# EAGLE library part MA20-1 (library dec-con)
Pin Header (.125" spacing)
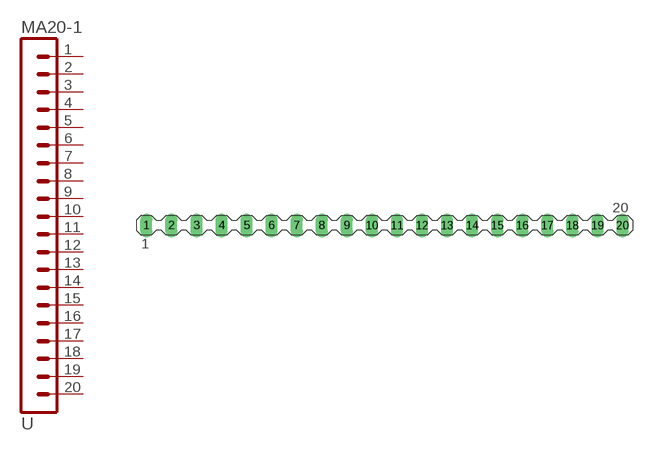
[diagram p26: symbol with the pads of MA20-1; footprint MA20-1]

Designator prefix -

## MA20-1  [MA20-1]
1  1  pas
2  2  pas
3  3  pas
4  4  pas
5  5  pas
6  6  pas
7  7  pas
8  8  pas
9  9  pas
10  10  pas
11  11  pas
12  12  pas
13  13  pas
14  14  pas
15  15  pas
16  16  pas
17  17  pas
18  18  pas
19  19  pas
20  20  pas

## Footprint MA20-1 (pad centres in mm)
PIN HEADER (.125")
drill 1.016 long: 1 -28.575,0; 2 -25.4,0; 3 -22.225,0; 4 -19.05,0; 5 -15.875,0; 6 -12.7,0; 7 -9.525,0; 8 -6.35,0; 9 -3.175,0; 10 0,0; 11 3.175,0; 12 6.35,0; 13 9.525,0; 14 12.7,0; 15 15.875,0; 16 19.05,0; 17 22.225,0; 18 25.4,0; 19 28.575,0; 20 31.75,0